# Altium footprint library private_PCB.PcbLib: 1 footprints
Each footprint in its own frame and in the unit in brackets; x right, y up, seen from the top. Pads: shape width x height; smd on the part's side, far side on the other; paste and mask are expansions set on the pad; w line width, h text height; cw(c..) or ccw(c..) is an arc to the next point about the centre after c.
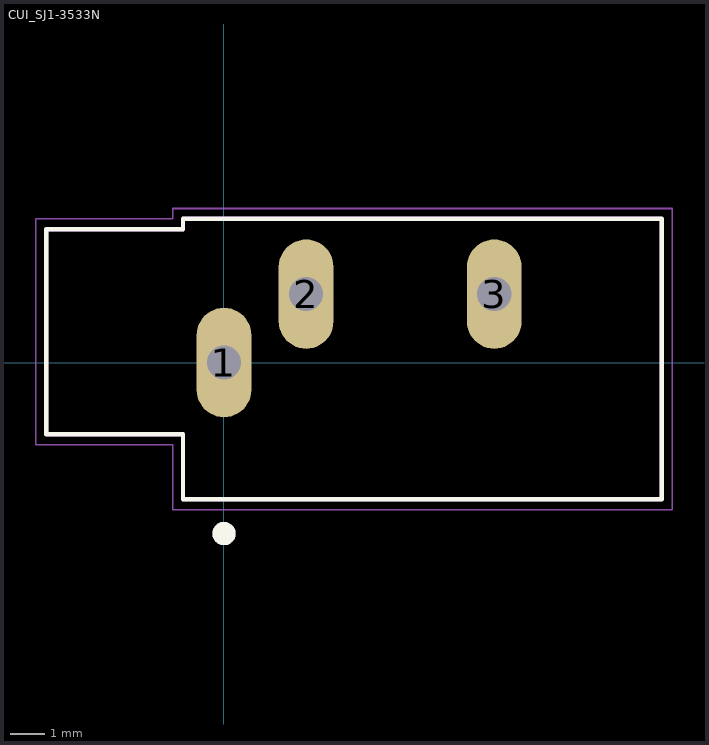
[diagram p0: the footprint, top view; thin cyan lines are the x and y axes]

## CUI_SJ1-3533N [mm]
pads (3):
  oval 1.6x3.2 hole 1 square: 1(0,0) 2(2.4,2) 3(7.9,2)
Top Overlay:
  circle w0.34: c0,-5 r0.17
  lines w0.127: -5.2,-2.1 -5.2,3.9 -1.2,3.9 -1.2,4.2 12.8,4.2 12.8,-4 -1.2,-4 -1.2,-2.1 -5.2,-2.1
Mechanical 13:
  circle w0.34: c0,-5 r0.17
  lines w0.127: -5.2,-2.1 -5.2,3.9 -1.2,3.9 -1.2,4.2 12.8,4.2 12.8,-4 -1.2,-4 -1.2,-2.1 -5.2,-2.1
Mechanical 15:
  lines w0.05: -5.5,-2.4 -5.5,4.2 -1.5,4.2 -1.5,4.5 13.1,4.5 13.1,-4.3 -1.5,-4.3 -1.5,-2.4 -5.5,-2.4
3D body "CUI_DEVICES_SJ1-3533N.step": height 14.19, standoff -1.41, extent -5.19,-4.009 12.81,4.191